# Altium footprint library Mylib.PcbLib: 20 footprints (part 2 of 2)
Each footprint in its own frame and in the unit in brackets; x right, y up, seen from the top. Pads: shape width x height; smd on the part's side, far side on the other; paste and mask are expansions set on the pad; w line width, h text height; cw(c..) or ccw(c..) is an arc to the next point about the centre after c.
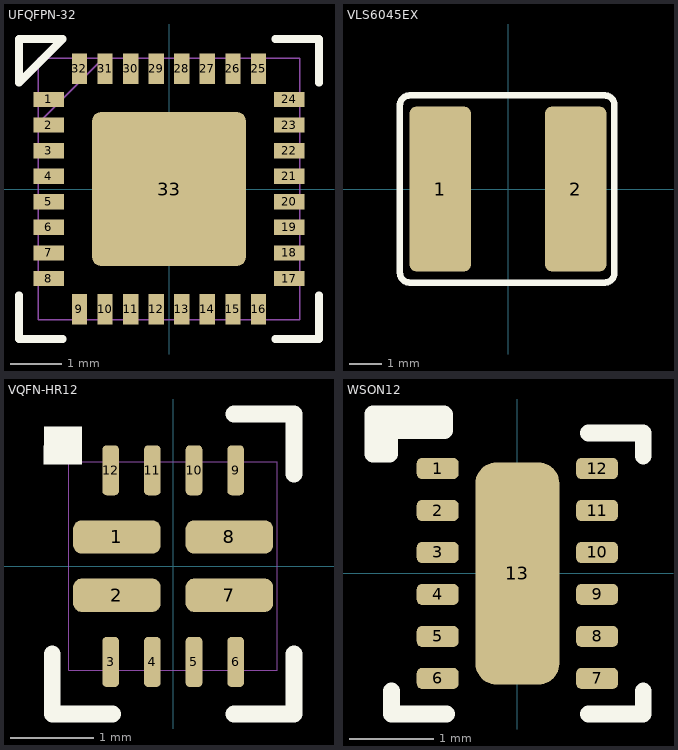
[diagram p1: the footprints below, top view; thin cyan lines are the x and y axes]

## UFQFPN-32 [mm]
pads (33):
  rect 0.6x0.3 smd paste-0.15 mask+0: 1(-2.35,1.75) 2(-2.35,1.25) 3(-2.35,0.75) 4(-2.35,0.25) 5(-2.35,-0.25) 6(-2.35,-0.75) 7(-2.35,-1.25) 8(-2.35,-1.75) 17(2.35,-1.75) 18(2.35,-1.25) 19(2.35,-0.75) 20(2.35,-0.25) 21(2.35,0.25) 22(2.35,0.75) 23(2.35,1.25) 24(2.35,1.75)
  rect 0.3x0.6 smd paste-0.15 mask+0: 9(-1.75,-2.35) 10(-1.25,-2.35) 11(-0.75,-2.35) 12(-0.25,-2.35) 13(0.25,-2.35) 14(0.75,-2.35) 15(1.25,-2.35) 16(1.75,-2.35) 25(1.75,2.35) 26(1.25,2.35) 27(0.75,2.35) 28(0.25,2.35) 29(-0.25,2.35) 30(-0.75,2.35) 31(-1.25,2.35) 32(-1.75,2.35)
  rrect10% 3x3 smd paste-0.15 mask+0: 33(0,0)
Top Overlay:
  lines w0.152: -2.931,-2.078 -2.931,-2.931 -2.078,-2.931 ; 2.078,-2.931 2.931,-2.931 2.931,-2.078 ; 2.078,2.931 2.931,2.931 2.931,2.078 ; -2.931,2.078 -2.931,2.931 -2.078,2.931 -2.931,2.078
Mechanical 9:
  text ".Comment" at -1.349,-1.603 h0.6
Mechanical 13:
  lines w0.025: -2.55,1.28 -1.28,2.55 ; -2.55,-2.55 2.55,-2.55 2.55,2.55 -2.55,2.55 -2.55,-2.55
  text "*" at -2.114,1.365 h1.27
3D body "UFQFPN-32.step": height 1.4, standoff 0, extent -2.601,-2.601 2.601,2.601
3D body: height 0.25, standoff 0, extent 0,0 0.254,0.254

## VLS6045EX [mm] "Inductor"
pads (2):
  rrect20% 1.9x5.1 smd: 1(-2.1,0) 2(2.1,0)
Top Overlay:
  lines w0.2: -3.35,-2.6 ccw(c-3.05,-2.6) -3.05,-2.9 3,-2.9 ccw(c3,-2.6) 3.3,-2.6 ; -3.35,-2.575 -3.35,2.625 ; -3.35,2.6 cw(c-3.05,2.6) -3.05,2.9 ; -3.025,2.9 2.975,2.9 ; 3,2.9 cw(c3,2.6) 3.3,2.6 3.3,-2.575
Mechanical 9:
  text ".Comment" at -0.872,-1.31 h0.4
Mechanical 13:
  lines w0.05: -3.35,-2.6 ccw(c-3.05,-2.6) -3.05,-2.9 3,-2.9 ccw(c3,-2.6) 3.3,-2.6 ; -3.35,-2.575 -3.35,2.625 ; -3.35,2.6 cw(c-3.05,2.6) -3.05,2.9 ; -3.025,2.9 2.975,2.9 ; 3,2.9 cw(c3,2.6) 3.3,2.6 3.3,-2.575
3D body "User Library-SRN6045TA Series.STEP": height 4.2, standoff 0, extent -2.975,-3 3.025,3

## VQFN-HR12 [mm]
pads (12):
  rrect50% 1.05x0.4 smd: 1(-0.675,0.35) 2(-0.675,-0.35) 7(0.675,-0.35) 8(0.675,0.35)
  rrect50% 0.2x0.6 smd: 3(-0.75,-1.15) 4(-0.25,-1.15) 5(0.25,-1.15) 6(0.75,-1.15) 9(0.75,1.15) 10(0.25,1.15) 11(-0.25,1.15) 12(-0.75,1.15)
Top Overlay:
  region: -1.55,1.225 -1.1,1.225 -1.1,1.675 -1.55,1.675
  lines w0.2: -1.45,-1.05 -1.45,-1.775 -0.725,-1.775 ; 0.725,-1.775 1.45,-1.775 1.45,-1.05 ; 0.725,1.825 1.45,1.825 1.45,1.1
Mechanical 9:
  text ".Comment" at -1.09,-1.627 h0.5
Mechanical 13:
  lines w0.013: -1.25,-1.25 -1.25,1.25 1.25,1.25 1.25,-1.25 -1.25,-1.25
3D body "Part1.STEP": height 1, standoff -0.05, extent -1,-1.25 1,1.25

## WSON12 [mm]
pads (13):
  rrect50% 0.5x0.25 smd: 1(-0.95,1.25) 2(-0.95,0.75) 3(-0.95,0.25) 4(-0.95,-0.25) 5(-0.95,-0.75) 6(-0.95,-1.25) 7(0.95,-1.25) 8(0.95,-0.75) 9(0.95,-0.25) 10(0.95,0.25) 11(0.95,0.75) 12(0.95,1.25)
  rrect50% 1x2.65 smd paste-1: 13(0,0)
Top Overlay:
  region: -1.725,1.425 -1.725,1.9 -0.875,1.9 -0.87,1.895 -0.87,1.7 -1.525,1.7 -1.525,1.425
  lines w0.2: -1.5,-1.4 -1.5,-1.675 -0.845,-1.675 ; -1.05,1.9 -1.045,1.895 ; -0.875,1.9 -1.725,1.9 -1.725,1.425 -1.525,1.425 -1.525,1.7 -0.87,1.7 -0.87,1.895 ; 0.845,-1.675 1.5,-1.675 1.5,-1.4 ; 0.845,1.675 1.5,1.675 1.5,1.4
Top Paste:
  rectangle: -0.35,-1.275 0.35,-0.2
  rectangle: -0.35,0.175 0.35,1.25
Mechanical 9:
  text ".Comment" at -1.911,-0.12 h0.5
3D body "User Library-DSS0012B.STEP": height 0.8, standoff 0, extent -1,-1.5 1,1.5